# Altium footprint library микросхемы аналоговые.PcbLib: 28 footprints (part 2 of 2)
Each footprint in its own frame and in the unit in brackets; x right, y up, seen from the top. Pads: shape width x height; smd on the part's side, far side on the other; paste and mask are expansions set on the pad; w line width, h text height; cw(c..) or ccw(c..) is an arc to the next point about the centre after c.
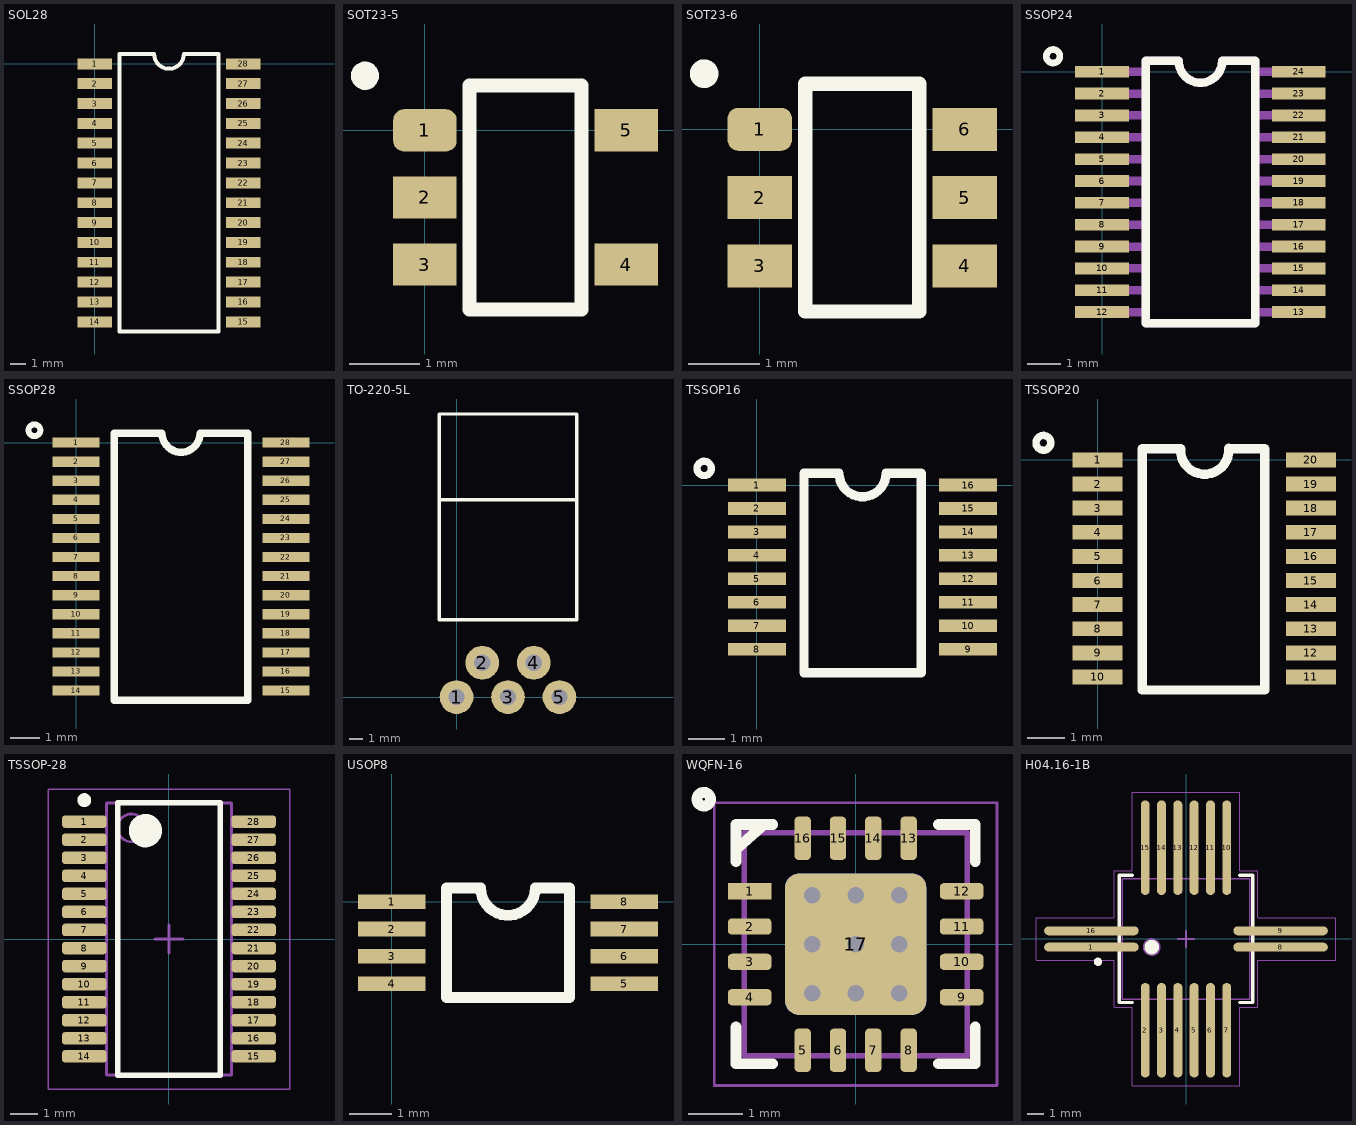
[diagram p1: the footprints below, top view; thin cyan lines are the x and y axes]

## SOL28 [mm]
pads (28):
  rect 2.2x0.7 smd: 1(0,0) 2(0,-1.27) 3(0,-2.54) 4(0,-3.81) 5(0,-5.08) 6(0,-6.35) 7(0,-7.62) 8(0,-8.89) 9(0,-10.16) 10(0,-11.43) 11(0,-12.7) 12(0,-13.97) 13(0,-15.24) 14(0,-16.51) 15(9.525,-16.51) 16(9.525,-15.24) 17(9.525,-13.97) 18(9.525,-12.7) 19(9.525,-11.43) 20(9.525,-10.16) 21(9.525,-8.89) 22(9.525,-7.62) 23(9.525,-6.35) 24(9.525,-5.08) 25(9.525,-3.81) 26(9.525,-2.54) 27(9.525,-1.27) 28(9.525,0)
Top Overlay:
  lines w0.254: 3.746,0.635 1.587,0.635 1.587,-17.145 7.938,-17.145 7.938,0.635 5.715,0.635 cw(c4.763,0.635) 3.81,0.635

## SOT23-5 [mm]
pads (5):
  rrect50% 0.9x0.6 smd mask+0.025: 1(0,0)
  rect 0.9x0.6 smd mask+0.025: 2(0,-0.953) 3(0,-1.905) 4(2.857,-1.905) 5(2.857,0)
Top Overlay:
  circle w0.2: c-0.85,0.775 r0.1
  lines w0.2: 0.635,-2.54 2.222,-2.54 2.222,0.635 0.635,0.635 0.635,-2.54
3D body "User Library-SOT23-5.STEP": height 1.09, standoff -0.01, extent 0,-2.399 2.8,0.5

## SOT23-6 [mm]
pads (6):
  rrect50% 0.9x0.6 smd mask+0.025: 1(0,0)
  rect 0.9x0.6 smd mask+0.025: 2(0,-0.953) 3(0,-1.905) 4(2.857,-1.905) 5(2.857,-0.953) 6(2.857,0)
Top Overlay:
  circle w0.2: c-0.775,0.775 r0.1
  lines w0.2: 0.635,-2.54 2.222,-2.54 2.222,0.635 0.635,0.635 0.635,-2.54
3D body "User Library-SOT-23-6-3.SLDPRT": height 0.86, standoff 0, extent 0.02,-2.45 2.83,0.55

## SSOP24 [mm]
pads (24):
  rect 1.6x0.35 smd: 1(0,0) 2(0,-0.65) 3(0,-1.3) 4(0,-1.95) 5(0,-2.6) 6(0,-3.25) 7(0,-3.9) 8(0,-4.55) 9(0,-5.2) 10(0,-5.85) 11(0,-6.5) 12(0,-7.15) 13(5.85,-7.15) 14(5.85,-6.5) 15(5.85,-5.85) 16(5.85,-5.2) 17(5.85,-4.55) 18(5.85,-3.9) 19(5.85,-3.25) 20(5.85,-2.6) 21(5.85,-1.95) 22(5.85,-1.3) 23(5.85,-0.65) 24(5.85,0)
Top Overlay:
  circle w0.2: c-1.46,0.46 r0.2
  lines w0.254: 1.3,-7.475 4.55,-7.475 4.55,0.325 3.575,0.325 cw(c2.925,0.325) 2.275,0.325 1.3,0.325 1.3,-7.475
Mechanical 10:
  lines w0.254: 0,-7.15 1.3,-7.15 ; 0,-6.5 1.3,-6.5 ; 0,-5.85 1.3,-5.85 ; 0,-5.2 1.3,-5.2 ; 0,-4.55 1.3,-4.55 ; 0,-3.9 1.3,-3.9 ; 0,-3.25 1.3,-3.25 ; 0,-2.6 1.3,-2.6 ; 0,-1.95 1.3,-1.95 ; 0,-1.3 1.3,-1.3 ; 0,-0.65 1.3,-0.65 ; 0,0 1.3,0 ; 4.55,-7.15 5.85,-7.15 ; 4.55,-6.5 5.85,-6.5 ; 4.55,-5.85 5.85,-5.85 ; 4.55,-5.2 5.85,-5.2 ; 4.55,-4.55 5.85,-4.55 ; 4.55,-3.9 5.85,-3.9 ; 4.55,-3.25 5.85,-3.25 ; 4.55,-2.6 5.85,-2.6 ; 4.55,-1.95 5.85,-1.95 ; 4.55,-1.3 5.85,-1.3 ; 4.55,-0.65 5.85,-0.65 ; 4.55,0 5.85,0 ; 1.3,-7.475 4.55,-7.475 4.55,0.325 3.575,0.325 cw(c2.925,0.325) 2.275,0.325 1.3,0.325 1.3,-7.475

## SSOP28 [mm]
pads (28):
  rect 1.6x0.35 smd: 1(0,0) 2(0,-0.65) 3(0,-1.3) 4(0,-1.95) 5(0,-2.6) 6(0,-3.25) 7(0,-3.9) 8(0,-4.55) 9(0,-5.2) 10(0,-5.85) 11(0,-6.5) 12(0,-7.15) 13(0,-7.8) 14(0,-8.45) 15(7.15,-8.45) 16(7.15,-7.8) 17(7.15,-7.15) 18(7.15,-6.5) 19(7.15,-5.85) 20(7.15,-5.2) 21(7.15,-4.55) 22(7.15,-3.9) 23(7.15,-3.25) 24(7.15,-2.6) 25(7.15,-1.95) 26(7.15,-1.3) 27(7.15,-0.65) 28(7.15,0)
Top Overlay:
  circle w0.2: c-1.42,0.42 r0.2
  lines w0.254: 1.3,-8.775 1.3,0.325 2.925,0.325 ccw(c3.575,0.325) 4.225,0.325 5.85,0.325 5.85,-8.775 1.3,-8.775

## TO-220-5L [mm]
pads (5):
  round 2.5 hole 1.2: 1(0,0) 2(1.905,2.54) 3(3.81,0) 4(5.715,2.54) 5(7.62,0)
Top Overlay:
  lines w0.254: -1.27,14.605 8.89,14.605 ; -1.27,5.715 8.89,5.715 8.89,20.955 -1.27,20.955 -1.27,5.715

## TSSOP16 [mm]
pads (16):
  rect 1.6x0.35 smd: 1(0,0) 2(0,-0.65) 3(0,-1.3) 4(0,-1.95) 5(0,-2.6) 6(0,-3.25) 7(0,-3.9) 8(0,-4.55) 9(5.85,-4.55) 10(5.85,-3.9) 11(5.85,-3.25) 12(5.85,-2.6) 13(5.85,-1.95) 14(5.85,-1.3) 15(5.85,-0.65) 16(5.85,0)
Top Overlay:
  circle w0.2: c-1.46,0.46 r0.2
  lines w0.254: 1.3,-5.2 1.3,0.325 2.275,0.325 ccw(c2.925,0.325) 3.575,0.325 4.55,0.325 4.55,-5.2 1.3,-5.2
3D body "User Library-TSSOP-16 5_1x4_4.STEP": height 1.1, standoff 0, extent -0.279,-4.836 6.121,0.264

## TSSOP20 [mm]
pads (20):
  rect 1.35x0.4 smd: 1(0,0) 2(0,-0.65) 3(0,-1.3) 4(0,-1.95) 5(0,-2.6) 6(0,-3.25) 7(0,-3.9) 8(0,-4.55) 9(0,-5.2) 10(0,-5.85) 11(5.75,-5.85) 12(5.75,-5.2) 13(5.75,-4.55) 14(5.75,-3.9) 15(5.75,-3.25) 16(5.75,-2.6) 17(5.75,-1.95) 18(5.75,-1.3) 19(5.75,-0.65) 20(5.75,0)
Top Overlay:
  circle w0.2: c-1.46,0.46 r0.2
  lines w0.254: 2.2,0.3 1.2,0.3 1.2,-6.2 4.5,-6.2 4.5,0.3 3.6,0.3 ; 2.236,0.298 ccw(c2.885,0.265) 3.533,0.309

## TSSOP-28 [mm] "TSOP, 28-Leads, Body 9,70x4,40mm, Pitch 0,65mm, IPC Low Density"
height 1.2
pads (28):
  rrect50% 1.6x0.45 smd mask+0.025: 1(-3.05,4.225) 2(-3.05,3.575) 3(-3.05,2.925) 4(-3.05,2.275) 5(-3.05,1.625) 6(-3.05,0.975) 7(-3.05,0.325) 8(-3.05,-0.325) 9(-3.05,-0.975) 10(-3.05,-1.625) 11(-3.05,-2.275) 12(-3.05,-2.925) 13(-3.05,-3.575) 14(-3.05,-4.225) 15(3.05,-4.225) 16(3.05,-3.575) 17(3.05,-2.925) 18(3.05,-2.275) 19(3.05,-1.625) 20(3.05,-0.975) 21(3.05,-0.325) 22(3.05,0.325) 23(3.05,0.975) 24(3.05,1.625) 25(3.05,2.275) 26(3.05,2.925) 27(3.05,3.575) 28(3.05,4.225)
Top Overlay:
  circle w0.25: c-3.05,5 r0.125
  circle w0.6: c-0.85,3.9 r0.3
  lines w0.2: -1.85,-4.9 -1.85,4.9 1.85,4.9 1.85,-4.9 -1.85,-4.9
Mechanical 14:
  circle w0.1: c-1.35,4 r0.5
  lines w0.1: -2.25,-4.9 -2.25,4.9 2.25,4.9 2.25,-4.9 -2.25,-4.9
Mechanical 15:
  lines w0.05: -4.35,-5.4 -4.35,5.4 4.35,5.4 4.35,-5.4 -4.35,-5.4
  lines w0.1: -0.5,0 0.5,0 ; 0,-0.5 0,0.5
3D body "User Library-ADM3311EARUZ.SLDPRT": height 1.15, standoff 0.01, extent -3.2,-4.85 3.2,4.85

## USOP8 [mm]
pads (8):
  rect 1.6x0.35 smd: 1(0,0) 2(0,-0.65) 3(0,-1.3) 4(0,-1.95) 5(5.525,-1.95) 6(5.525,-1.3) 7(5.525,-0.65) 8(5.525,0)
Top Overlay:
  lines w0.254: 1.3,-2.275 4.225,-2.275 4.225,0.325 3.413,0.325 cw(c2.762,0.325) 2.113,0.325 1.3,0.325 1.3,-2.275

## WQFN-16 [mm] "QFN, 16-Leads, Body 4,00x4,00mm, Pitch 0,65mm, Thermal Pad 2,70x2,70mm, IPC Medium Density"
height 0.8
pads (18):
  rect 0.8x0.3 smd mask+0.025: 1(-1.95,0.975)
  rrect50% 0.8x0.3 smd mask+0.025: 2(-1.95,0.325) 3(-1.95,-0.325) 4(-1.95,-0.975) 9(1.95,-0.975) 10(1.95,-0.325) 11(1.95,0.325) 12(1.95,0.975)
  rrect50% 0.3x0.8 smd mask+0.025: 5(-0.975,-1.95) 6(-0.325,-1.95) 7(0.325,-1.95) 8(0.975,-1.95) 13(0.975,1.95) 14(0.325,1.95) 15(-0.325,1.95) 16(-0.975,1.95)
  rrect20% 2.6x2.6 smd mask+0.025: 17(0,0)
  rrect20% 2.6x2.6 smd far side mask+0.025: 17(0,0)
via 0,0.9 diameter 0.6 hole 0.3
via 0.8,0.9 diameter 0.6 hole 0.3
via -0.8,0.9 diameter 0.6 hole 0.3
via 0,0 diameter 0.6 hole 0.3
via 0.8,0 diameter 0.6 hole 0.3
via -0.8,0 diameter 0.6 hole 0.3
via 0,-0.9 diameter 0.6 hole 0.3
via 0.8,-0.9 diameter 0.6 hole 0.3
via -0.8,-0.9 diameter 0.6 hole 0.3
Top Overlay:
  circle w0.2: c-2.794,2.667 r0.125
  lines w0.2: -2.2,-1.525 -2.2,-2.2 -1.525,-2.2 ; -2.2,1.525 -2.2,2.2 -1.525,2.2 ; -2.159,1.778 -1.737,2.158 ; 1.525,-2.2 2.2,-2.2 2.2,-1.525 ; 1.525,2.2 2.2,2.2 2.2,1.525
Mechanical 14:
  circle w0.1: c0,0 r0.5
  lines w0.1: -2.05,-2.05 -2.05,2.05 2.05,2.05 2.05,-2.05 -2.05,-2.05
Mechanical 15:
  lines w0.05: -2.6,-2.6 -2.6,2.6 2.6,2.6 2.6,-2.6 -2.6,-2.6
  lines w0.1: -0.5,0 0.5,0 ; 0,-0.5 0,0.5
3D body: height 0.8, standoff 0.01, extent -2.05,-2.05 2.05,2.05

## Н04.16-1В [mm] "CFP, 16-Leads, Body 7,80x7,40mm (max), Pitch 1,00mm, IPC Low Density"
height 3
pads (16):
  oval 5.8x0.55 smd: 1(-5.8,-0.5) 8(5.8,-0.5) 9(5.8,0.5) 16(-5.8,0.5)
  oval 0.55x5.8 smd: 2(-2.5,-5.6) 3(-1.5,-5.6) 4(-0.5,-5.6) 5(0.5,-5.6) 6(1.5,-5.6) 7(2.5,-5.6) 10(2.5,5.6) 11(1.5,5.6) 12(0.5,5.6) 13(-0.5,5.6) 14(-1.5,5.6) 15(-2.5,5.6)
Top Overlay:
  circle w0.5: c-2.1,-0.5 r0.2
  circle w0.25: c-5.4,-1.4 r0.125
  lines w0.2: -3.3,-3.9 -4.1,-3.9 -4.1,3.9 -3.3,3.9 ; 3.3,-3.9 4.1,-3.9 4.1,3.9 3.3,3.9
Mechanical 14:
  circle w0.1: c-2.1,-0.5 r0.5
  lines w0.1: -3.9,-3.7 -3.9,3.7 3.9,3.7 3.9,-3.7 -3.9,-3.7
Mechanical 15:
  lines w0.05: -9.2,-1.304 -4.4,-1.304 -4.4,-4.2 -3.3,-4.2 -3.3,-9 3.3,-9 3.3,-4.2 4.4,-4.2 4.4,-1.304 9.2,-1.304 9.2,1.3 4.4,1.3 4.4,4.196 3.3,4.196 3.3,8.996 -3.3,8.996 -3.3,4.196 -4.4,4.196 -4.4,1.3 -9.2,1.3 -9.2,-1.304
  lines w0.1: -0.5,0 0.5,0 ; 0,-0.5 0,0.5
3D body "H04.16-1B.stp": height 2.92, standoff 0, extent -5.9,-5.7 5.9,5.7